# Altium footprint library TPS2066.PcbLib: 1 footprints
Each footprint in its own frame and in the unit in brackets; x right, y up, seen from the top. Pads: shape width x height; smd on the part's side, far side on the other; paste and mask are expansions set on the pad; w line width, h text height; cw(c..) or ccw(c..) is an arc to the next point about the centre after c.
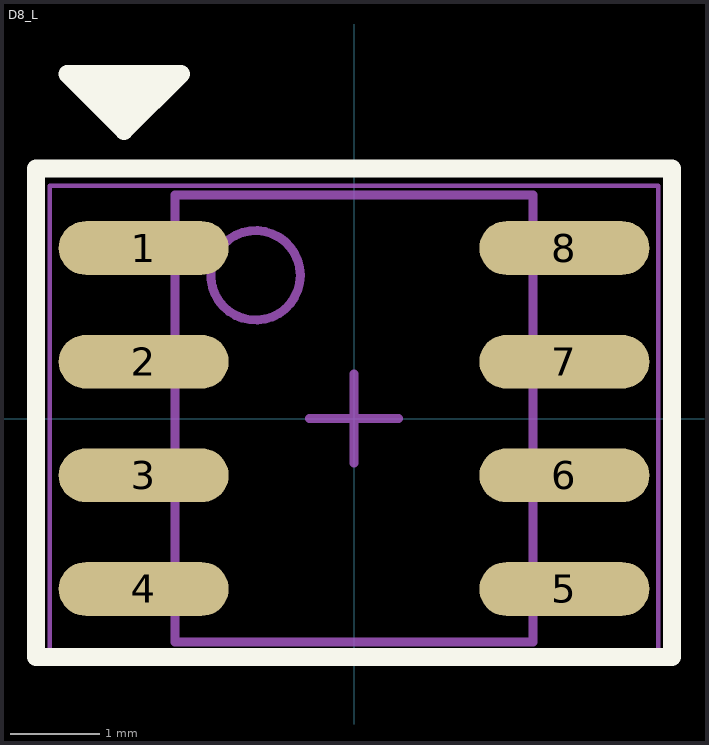
[diagram p0: the footprint, top view; thin cyan lines are the x and y axes]

## D8_L [mm] "SOIC, 8-Leads, Body 4.9x3.9mm, Pitch 1.27mm, IPC High Density"
height 1.75
pads (8):
  oval 1.9x0.6 smd: 1(-2.35,1.905) 2(-2.35,0.635) 3(-2.35,-0.635) 4(-2.35,-1.905) 5(2.35,-1.905) 6(2.35,-0.635) 7(2.35,0.635) 8(2.35,1.905)
Top Overlay:
  lines w0.2: -2.316,3.723 -2.443,3.723 -2.443,3.596 ; -2.57,3.215 -1.935,3.85 -3.205,3.85 -2.57,3.215 ; -2.57,3.215 -2.57,3.85 ; -2.57,3.469 -2.189,3.85 -2.316,3.85 -2.57,3.85 ; -2.57,3.469 -2.951,3.85 -2.57,3.85 ; -2.57,3.469 -2.76,3.66 -2.57,3.85 ; -2.57,3.469 -2.443,3.596 ; -2.443,3.596 -2.506,3.596 -2.443,3.596 ; -3.556,-2.667 3.556,-2.667 3.556,2.794 -3.556,2.794 -3.556,-2.667
Mechanical 13:
  circle w0.1: c-1.1,1.6 r0.5
  lines w0.1: -2,-2.5 2,-2.5 2,2.5 -2,2.5 -2,-2.5
Mechanical 15:
  lines w0.05: -3.4,-2.6 3.4,-2.6 3.4,2.6 -3.4,2.6 -3.4,-2.6
  lines w0.1: -0.5,0 0.5,0 ; 0,-0.5 0,0.5
3D body: height 1.75, standoff 0.1, extent -2,-2.5 2,2.5